# Altium footprint library UFBGA-4.PcbLib: 1 footprints
Each footprint in its own frame and in the unit in brackets; x right, y up, seen from the top. Pads: shape width x height; smd on the part's side, far side on the other; paste and mask are expansions set on the pad; w line width, h text height; cw(c..) or ccw(c..) is an arc to the next point about the centre after c.
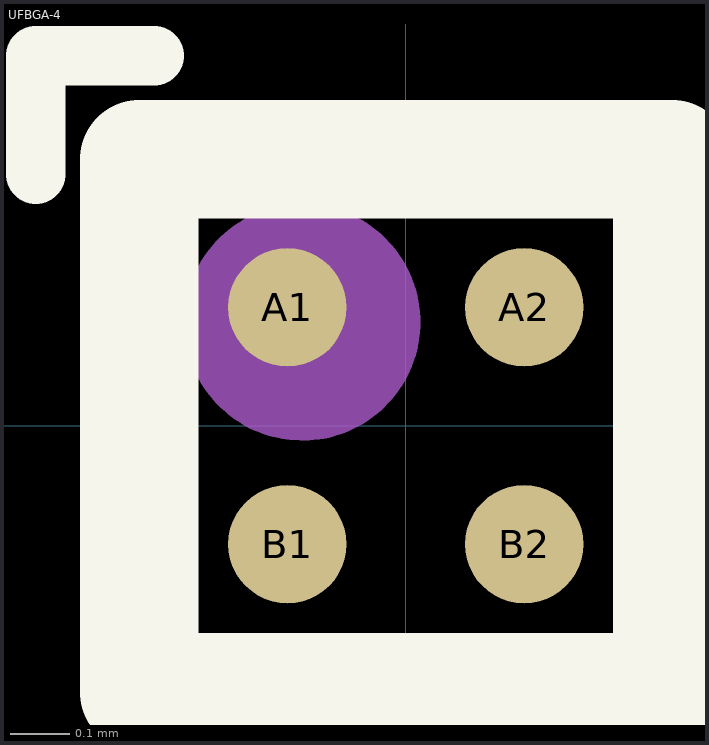
[diagram p0: the footprint, top view; thin cyan lines are the x and y axes]

## UFBGA-4 [mm]
pads (4):
  round 0.2 smd mask+0.005: A1(-0.2,0.2) A2(0.2,0.2) B1(-0.2,-0.2) B2(0.2,-0.2)
Top Overlay:
  lines w0.1: -0.625,0.425 -0.625,0.625 -0.425,0.625
  lines w0.2: -0.45,-0.45 -0.45,0.45 0.45,0.45 0.45,-0.45 -0.45,-0.45
Top Assembly:
  circle w0.2: c-0.175,0.175 r0.1
  lines w0.1: -0.45,-0.45 -0.45,0.45 0.45,0.45 0.45,-0.45 -0.45,-0.45
  text "'.Designator'" at -0.375,-1.375 h0.7
3D body "WLCSP4.STEP": height 0.45, standoff -0.02, extent -0.337,-0.337 0.338,0.338